# Altium footprint library WL-STCW.PcbLib: 3 footprints
Each footprint in its own frame and in the unit in brackets; x right, y up, seen from the top. Pads: shape width x height; smd on the part's side, far side on the other; paste and mask are expansions set on the pad; w line width, h text height; cw(c..) or ccw(c..) is an arc to the next point about the centre after c.
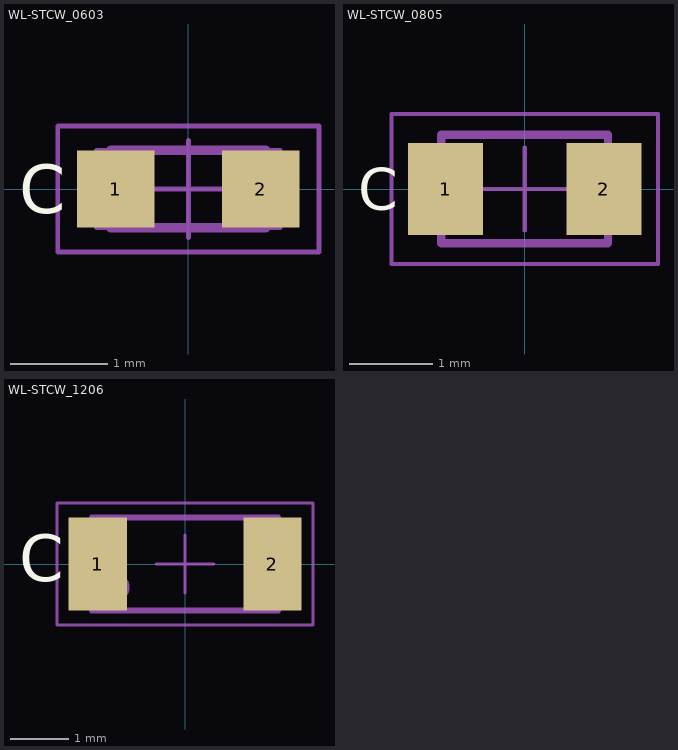
[diagram p0: the footprints below, top view; thin cyan lines are the x and y axes]

## WL-STCW_0603 [mm] "SMT Phototransistor Chip Waterclear, body 1.6x0.8mm"
height 0.8
pads (2):
  rect 0.8x0.8 smd: 1(-0.75,0) 2(0.75,0)
Top Overlay:
  text "C" at -1.75,-0.25 h0.5
Top Designator:
  text ".Designator" at -2.499,-0.167 h0.5
Top Component Outline:
  lines w0.05: -0.95,-0.4 0.95,-0.4 0.95,0.4 -0.95,0.4 -0.95,-0.4
Top 3D Body:
  lines w0.1: -0.8,-0.4 0.8,-0.4 0.8,0.4 -0.8,0.4 -0.8,-0.4
Top Courtyard:
  lines w0.05: -0.5,0 0.5,0 ; 0,-0.5 0,0.5 ; -1.35,-0.65 -1.35,0.65 1.35,0.65 1.35,-0.65 -1.35,-0.65
3D body "1540601NBA500_HV.stp": height 0.8, standoff 0, extent -0.8,-0.4 0.8,0.4

## WL-STCW_0805 [mm] "SMT Phototransistor Chip Waterclear, body 2x1.3mm"
height 0.8
pads (2):
  rect 0.9x1.1 smd: 1(-0.95,0) 2(0.95,0)
Top Overlay:
  text "C" at -2,-0.25 h0.5
Top Designator:
  text ".Designator" at -2.499,-0.167 h0.5
Top Component Outline:
  circle w0.1: c-0.7,-0.35 r0.1
  lines w0.1: -1,-0.65 1,-0.65 1,0.65 -1,0.65 -1,-0.65
Top 3D Body:
  circle w0.1: c-0.7,-0.35 r0.1
  lines w0.1: -1,-0.65 1,-0.65 1,0.65 -1,0.65 -1,-0.65
Top Courtyard:
  lines w0.05: -0.5,0 0.5,0 ; 0,-0.5 0,0.5 ; -1.6,-0.9 -1.6,0.9 1.6,0.9 1.6,-0.9 -1.6,-0.9
3D body "1540801NBA300_HV.stp": height 0.8, standoff 0, extent -1,-0.65 1,0.65

## WL-STCW_1206 [mm] "SMT Phototransistor Chip Waterclear, body 3.2x1.6mm"
height 1.1
pads (2):
  rect 1x1.6 smd: 1(-1.5,0) 2(1.5,0)
Top Overlay:
  text "C" at -2.85,-0.3 h0.8
Top Designator:
  text ".Designator" at -3.499,-0.233 h0.7
Top Component Outline:
  circle w0.1: c-1.2,-0.4 r0.2
  lines w0.1: -1.6,-0.8 -1.6,0.8 1.6,0.8 1.6,-0.8 -1.6,-0.8
Top 3D Body:
  circle w0.1: c-1.2,-0.4 r0.2
  lines w0.1: -1.6,-0.8 -1.6,0.8 1.6,0.8 1.6,-0.8 -1.6,-0.8
Top Courtyard:
  lines w0.05: -0.5,0 0.5,0 ; 0,-0.5 0,0.5 ; -2.2,-1.05 2.2,-1.05 2.2,1.05 -2.2,1.05 -2.2,-1.05
3D body "1541201NBxx00_HV.stp": height 1.1, standoff 0, extent -1.6,-0.8 1.6,0.8